# EAGLE library part LINEAR,ADC_DRIVER,ADA4960 (library QuantumOptics)
Differential I/O ADC driver, ADA4960(-1), from Analog Devices.
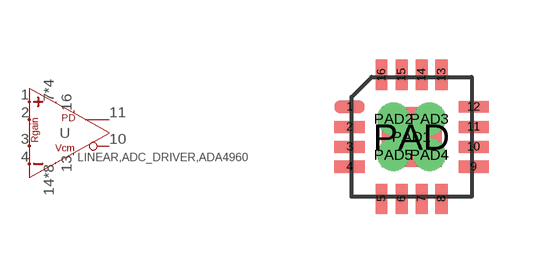
[diagram p217: symbol with the pads of LFSCP-16(ALT); footprint LFSCP-16(ALT)]

Designator prefix U

## LINEAR,ADC_DRIVER,ADA4960  [LFSCP-16(ALT)]
1  VIP  in
2  RG1  in
3  RG2  in
4  VIN  in
7  VCC
8  VCC
9  VCC
10  VON  out
11  VOP  out
12  VCC
13  VOCM
14  COM
15  COM
16  PD  in
PAD  COM
PAD1  COM
PAD2  COM
PAD3  COM
PAD4  COM
PAD5  COM

## Footprint LFSCP-16(ALT) (pad centres in mm)
LFCSP-16 with thermal relief vias for reflow assy.
smd 0.75 x 0.3: 1 -1.55,0.75; 2 -1.55,0.25; 3 -1.55,-0.25; 4 -1.55,-0.75; 9 1.55,-0.75; 10 1.55,-0.25; 11 1.55,0.25; 12 1.55,0.75
smd 0.3 x 0.75: 5 -0.75,-1.55; 6 -0.25,-1.55; 7 0.25,-1.55; 8 0.75,-1.55; 13 0.75,1.55; 14 0.25,1.55; 15 -0.25,1.55; 16 -0.75,1.55
smd 1.5 x 1.5: PAD 0,0
drill 0.3 pad 0.6: PAD1 0,0; PAD2 -0.45,0.45; PAD3 0.45,0.45; PAD4 0.45,-0.45; PAD5 -0.45,-0.45